# EAGLE library part CD74HC137 (library ORBiT-IC-TI)
CD74*137 3- to 8-Line Decoder/Demultiplexer with Address Latches The CD74HC137, CD74HCT137, ’HC237, and CD74HCT237 are high speed silicon gate CMOS decoders well suited to memory address decoding or data routing applications. Both circuits feature low power consumption usually associated with CMOS circuitry, yet have speeds comparable to low power Schottky TTL logic. Both circuits have three binary select inputs (A0, A1 and A2) that can be latched by an active High Latch Enable (LE) signal to isolate the outputs from select-input changes. A "Low" LE makes the output transparent to the input and the circuit functions as a one-of-eight decoder. Two Output Enable inputs (OE\1 and OE0) are provided to simplify cascading and to facilitate demultiplexing. The demultiplexing function is accomplished by using the A0, A1, A2 inputs to select the desired output and using one of the other Output Enable inputs as the data input while holding the other Output Enable input in its active state. In the CD74HC137 and CD74HCT137 the selected output is a "Low"; in the ’HC237 and CD74HCT237 the selected output is a "High". Features: Select One of Eight Data Outputs Active Low for CD74HC137 and CD74HCT137 Active High for ’HC237 and CD74HCT237 I/O Port or Memory Selector Two Enable Inputs to Simplify Cascading Typical Propagation Delay of 13ns at VCC = 5V, 15pF, TA = 25°C (CD74HC237) Fanout (Over Temperature Range) Standard Outputs. . . . 10 LSTTL Loads Bus Driver Outputs. . . . 15 LSTTL Loads Wide Operating Temperature Range . . . –55°C to 125°C Balanced Propagation Delay and Transition Times Significant Power Reduction Compared to LSTTL Logic ICs HC Types 2V to 6V Operation High Noise Immunity: NIL = 30%, NIH = 30%, of VCC at VCC = 5V HCT Types 4.5V to 5.5V Operation Direct LSTTL Input Logic Compatibility, VIL = 0.8V (Max), VIH = 2V (Min) CMOS Input Compatibility, Il ≤ 1µA at VOL, VOH Technical data: High Speed CMOS Logic 3-to-8 Line Decoder Demutiplexer with Address Latches <http://www.ti.com/product/CD74HC237>
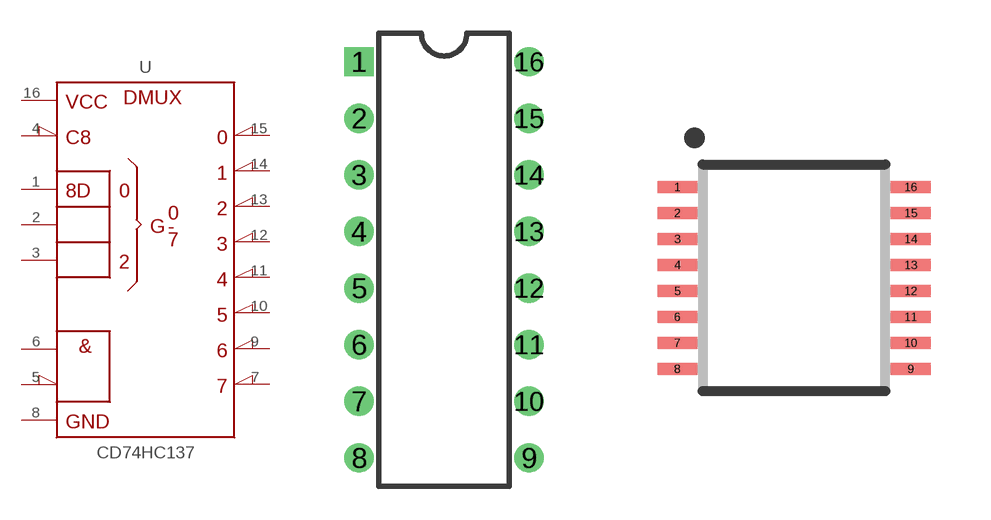
[diagram p5: symbol with the pads of DIP16; footprints DIP16, TSSOP16]

Designator prefix U

## CD74HC137E (MF: Texas Instruments; MPN: CD74HC137E; PN_DIGIKEY: 296-38065-1-ND; PN_MOUSER: 595-CD74HC137E)  [DIP16]
1  A  in
2  B  in
3  C  in
4  !GL  in
5  !G2  in
6  G1  in
7  Y7  out
8  GND  in
9  Y6  out
10  Y5  out
11  Y4  out
12  Y3  out
13  Y2  out
14  Y1  out
15  Y0  out
16  VCC  in

## CD74HC137PW (MF: Texas Instruments; MPN: CD74HC137PW; PN_DIGIKEY: 296-38065-1-ND; PN_MOUSER: 595-CD74HC137PW)  [TSSOP16]
Pads as for DIP16

## Footprint DIP16 (pad centres in mm)
Dual Inline Package 16-pin JEDEC MS-001
drill 0.813 square: 1 -3.81,8.89
drill 0.813: 2 -3.81,6.35; 3 -3.81,3.81; 4 -3.81,1.27; 5 -3.81,-1.27; 6 -3.81,-3.81; 7 -3.81,-6.35; 8 -3.81,-8.89; 9 3.81,-8.89; 10 3.81,-6.35; 11 3.81,-3.81; 12 3.81,-1.27; 13 3.81,1.27; 14 3.81,3.81; 15 3.81,6.35; 16 3.81,8.89

## Footprint TSSOP16 (pad centres in mm)
Thin Shrink Small Outline Plastic, 16 pin JEDEC MO-153
smd 0.991 x 0.305: 1 -2.918,2.275; 2 -2.918,1.625; 3 -2.918,0.975; 4 -2.918,0.325; 5 -2.918,-0.325; 6 -2.918,-0.975; 7 -2.918,-1.625; 8 -2.918,-2.275; 9 2.918,-2.275; 10 2.918,-1.625; 11 2.918,-0.975; 12 2.918,-0.325; 13 2.918,0.325; 14 2.918,0.975; 15 2.918,1.625; 16 2.918,2.275